# Altium schematic symbol library 5015680707.Schlib: 1 symbol
Pins are listed as number, name and electrical type; pins without a type are passive.

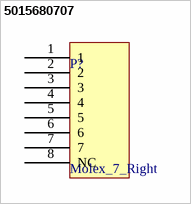
[diagram p0: symbol 5015680707]

## 5015680707
designator P?, comment Molex_7_Right
7 Pin Right Molex PCB Header
pins: 1, 2, 3, 4, 5, 6, 7, 8 NC